# EAGLE library part 687112144921 (library Wuerth_Elektronik_eiCan_03_ZIF_Connectors_Flat_Flexible_Cable)
WR-FPC 0.5mm SMT ZIF Horizontal Top Contact Low Profile 1.2mm Height, 12 Pins
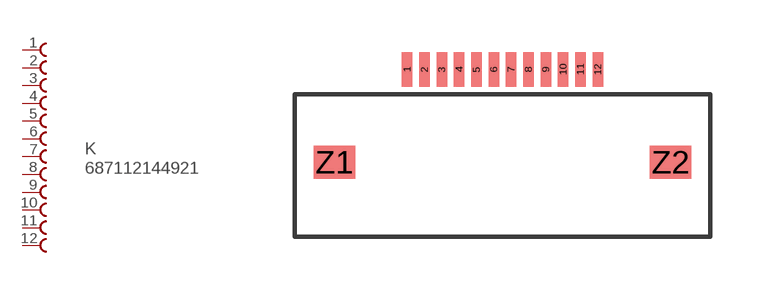
[diagram p93: symbol with the pads of 687112144921; footprint 687112144921]

Designator prefix K

## 687112144921  [687112144921]
1  1  pas
2  2  pas
3  3  pas
4  4  pas
5  5  pas
6  6  pas
7  7  pas
8  8  pas
9  9  pas
10  10  pas
11  11  pas
12  12  pas

## Footprint 687112144921 (pad centres in mm)
WR-FPC 0.5mm SMT ZIF Horizontal Top Contact Low Profile 1.2mm Height, 12 Pins
smd 0.3 x 1: 1 -2.75,4.825; 2 -2.25,4.825; 3 -1.75,4.825; 4 -1.25,4.825; 5 -0.75,4.825; 6 -0.25,4.825; 7 0.25,4.825; 8 0.75,4.825; 9 1.25,4.825; 10 1.75,4.825; 11 2.25,4.825; 12 2.75,4.825
smd 1.2 x 0.95: Z1 -4.85,2.15; Z2 4.85,2.15